# Altium schematic symbol library Schlib1.SchLib: 19 symbols
Pins are listed as number, name and electrical type; pins without a type are passive.

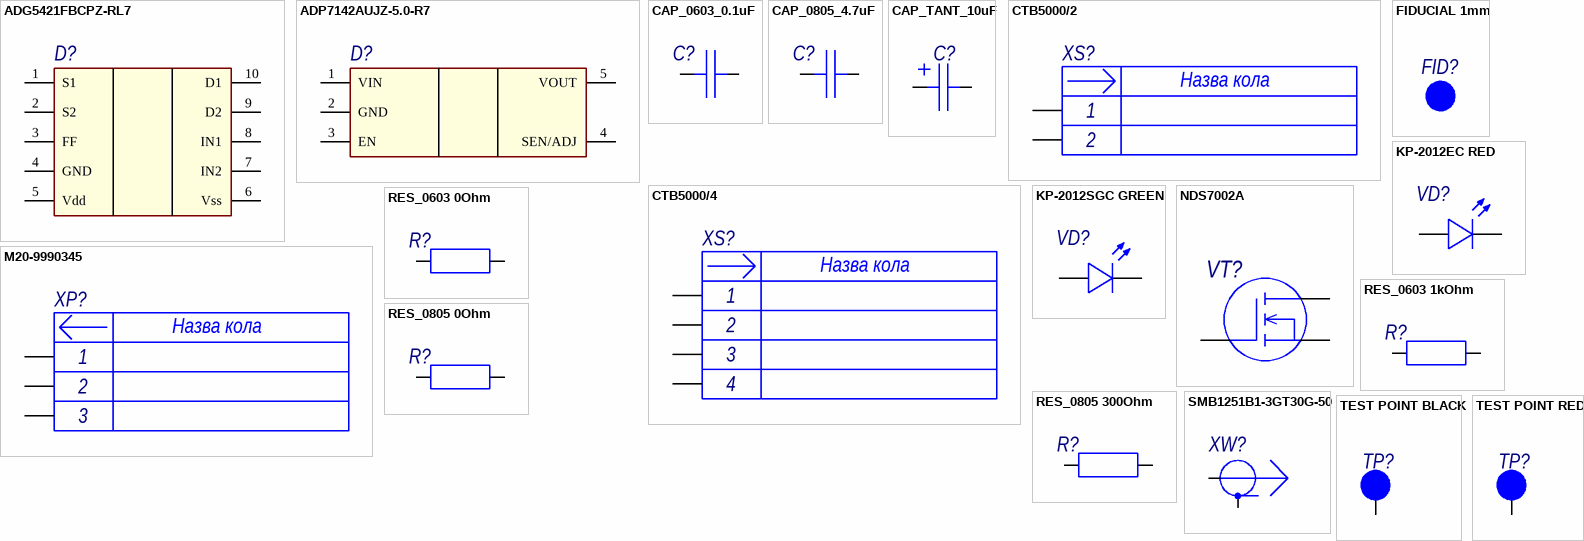
[diagram p0: symbols ADG5421FBCPZ-RL7 to TEST POINT RED]

## ADG5421FBCPZ-RL7
designator D?  (value not drawn)
IC SW SPST-NCX2 14OHM 10LFCSP; Manufacturer: Analog Devices Inc.; Part Number: 505-ADG5421FBCPZ-RL7DKR-ND; Package: 10-WFDFN, CSP; Mount: SMT; Type: *; Min Operating Temperature: -40°C; Max Operating Temperature: +125°C; Number of Pins: 10
footprint ADG5421FBCPZ-RL7
pins: 1 S1, 2 S2, 3 FF, 4 GND, 5 Vdd, 6 Vss, 7 IN2, 8 IN1, 9 D2, 10 D1

## ADP7142AUJZ-5.0-R7
designator D?  (value not drawn)
IC REG LINEAR 5V 200MA TSOT23-5; Manufacturer: Analog Devices Inc.; Part Number: 505-ADP7142AUJZ-5.0-R7DKR-ND; Package: SOT-23-5 Thin, TSOT-23-5; Mount: SMT; Type: *; Min Operating Temperature: -40°C; Max Operating Temperature: +125°C; Number of Pins: 5
footprint ADP7142AUJZ-5.0-R7
pins: 1 VIN, 2 GND, 3 EN, 4 SEN/ADJ, 5 VOUT

## CAP_0603_0.1uF
designator C?  (value not drawn)
CAP CER 0.1UF 50V X7R 0603; Manufacturer: Murata Electronics; Part Number: 490-1519-6-ND; Value: 0.1мкФ; Tolerance: ±10%; Voltage: 50В; Type: Конденсатор керамічний; Package: 0603; Mount: SMT; Dielectric: X7R; Min Operating Temperature: -55; Max Operating Temperature: 125; Number of Pins: 2
footprint CAP_0603_0.1uF
pins: 1, 2

## CAP_0805_4.7uF
designator C?  (value not drawn)
CAP CER 4.7UF 50V X5R 0805; Manufacturer: TDK Corporation; Part Number: 445-5980-6-ND; Value: 4.7мкФ; Tolerance: ±10%; Voltage: 50В; Type: Конденсатор керамічний; Package: 0805; Mount: SMT; Dielectric: X5R; Min Operating Temperature: -55; Max Operating Temperature: 85; Number of Pins: 2
footprint CAP_0805_4.7uF
pins: 1, 2

## CAP_TANT_10uF
designator C?  (value not drawn)
CAP TANT 10UF 10% 50V 2917; Manufacturer: KYOCERA AVX; Part Number: 478-2380-6-ND; Value: 10мкФ; Voltage: 50В; Type: Конденсатор танталовий; Package: 2917; Tolerance: ±10%; Mount: SMT; Dielectric: *; Min Operating Temperature: -55; Max Operating Temperature: 125; Number of Pins: 2
footprint CAP_TANT_10uF
pins: 1, 2

## CTB5000/2
designator XS?  (value not drawn)
2-pin, terminal blocks (5 mm pitch), 250V, 16A; Manufacturer: CAMDENBOSS; Part Number: CTB5000/2; Min Opearing Temperature: -25°C; Max Opearing Temperature: +110°C; Number of Pins: 2; Mated With: *; Type: Female
footprint CTB5000/2
pins: 1, 2
text: Назва кола

## CTB5000/4
designator XS?  (value not drawn)
4-pin, terminal blocks (5 mm pitch), 250V, 16A; Manufacturer: CAMDENBOSS; Part Number: CTB5000/4; Min Opearing Temperature: -25°C; Max Opearing Temperature: +110°C; Number of Pins: 4; Mated With: *; Type: Female
footprint CTB5000/4
pins: 1, 2, 3, 4
text: Назва кола

## FIDUCIAL 1mm
designator FID?, comment Fiducial  (value not drawn)  (no BOM)
Fiducial 1mm Pad; Value: Fiducial; Component Function: *
footprint FIDUCIAL 1mm

## KP-2012EC RED
designator VD?  (value not drawn)
2-pin, SMT LED, red, forward voltage 2V, forward current 20mA; Manufacturer: KINGBRIGHT; Part Number: KP-2012EC; Min Opearing Temperature: -40°C; Max Opearing Temperature: +85°C; Number of Pins: 2; Mated With: *; Type: LED
footprint KP-2012EC RED
pins: 1, 2

## KP-2012SGC GREEN
designator VD?  (value not drawn)
2-pin, SMT LED, green, forward voltage 2.2V, forward current 20mA; Manufacturer: KINGBRIGHT; Part Number: KP-2012SGC; Min Opearing Temperature: -40°C; Max Opearing Temperature: +85°C; Number of Pins: 2; Mated With: *; Type: LED
footprint KP-2012SGC GREEN
pins: 1, 2

## M20-9990345
designator XP?  (value not drawn)
CONN HEADER VERT 3POS 2.54MM; Manufacturer: Harwin Inc.; Part Number: 952-2263-ND; Min Opearing Temperature: -40°C; Max Opearing Temperature: +105°C; Number of Pins: 3; Mated With: *; Type: Male
footprint M20-9990345
pins: 1, 2, 3
text: Назва кола

## NDS7002A
designator VT?, comment NDS7002A onsemi  (value not drawn)
MOSFET N-CH 60V 280MA SOT-23; Name: NDS7002A; Manufacturer: onsemi
footprint NDS7002A
pins: 1, 2, 3

## RES_0603 0Ohm
designator R?  (value not drawn)
RES 0 OHM 63mW 0603; Manufacturer: Multicomp; Part Number: MC0603WG00000T5E-TC; Value: 0Ом; Power Rating: 63 мВт; Package: 0603; Tolerance: *; Type: Резистор; Mount: SMT; Min Operating Temperature: -55°C; Max Operating Temperature: +155°C; Number of Pins: 2
footprint RES_0603 0Ohm
pins: 1, 2

## RES_0603 1kOhm
designator R?  (value not drawn)
RES 1K OHM 1% 63mW 0603; Manufacturer: Multicomp; Part Number: MC0063W060311K; Value: 1кОм; Power Rating: 63 мВт; Package: 0603; Tolerance: ±1%; Type: Резистор; Mount: SMT; Min Operating Temperature: -55°C; Max Operating Temperature: +155°C; Number of Pins: 2
footprint RES_0603 1kOhm
pins: 1, 2

## RES_0805 0Ohm
designator R?  (value not drawn)
RES SMD 0 OHM JUMPER 1/8W 0805; Manufacturer: Panasonic Electronic Components; Part Number: ERJ-6GEY0R00V; Value: 0Ом; Package: 0805; Tolerance: *; Power Rating: *; Type: Резистор; Mount: SMT; Min Operating Temperature: -55°C; Max Operating Temperature: +155°C; Number of Pins: 2
footprint RES_0805 0Ohm
pins: 1, 2

## RES_0805 300Ohm
designator R?  (value not drawn)
RES 300 OHM 5% 1/8W 0805; Manufacturer: YAGEO; Part Number: 311-300ARDKR-ND; Value: 300Ом; Package: 0805; Tolerance: ±5%; Power Rating: 1/8W; Type: Резистор; Mount: SMT; Min Operating Temperature: -55°C; Max Operating Temperature: +155°C; Number of Pins: 2
footprint RES_0805 300Ohm
pins: 1, 2

## SMB1251B1-3GT30G-50
designator XW?  (value not drawn)
50 Ω, SMB connectors; Manufacturer: AMPHENOL RF; Part Number: SMB1251B1-3GT30G-50; Number of Pins: 2; Mount: THT; Min Operating Temperature: -40°C; Max Operating Temperature: +85°C; Mated With: *; Type: Male Socket
footprint SMB1251B1-3GT30G-50
pins: 1, 2

## TEST POINT BLACK
designator TP?, comment Test point  (value not drawn)  (no BOM)
VERO 20-2137 / PCB Test Point, Black, Through Hole Mount, 1.02 mm, Phosphor Bronze; Value: Test point; Component Function: *
footprint TEST POINT BLACK
pins: 1

## TEST POINT RED
designator TP?, comment Test point  (value not drawn)  (no BOM)
VERO 20-2137 / PCB Test Point, Red, Through Hole Mount, 1.02 mm, Phosphor Bronze; Value: Test point; Component Function: *
footprint TEST POINT RED
pins: 1